# EAGLE library part WIZ850IO (library SamacSys_Parts)
Networking Modules W5500 + MAG Jack ioPlatform Mod Source: Datasheet <http://wizwiki.net/wiki/doku.php?id=products:wiz850io:start#hardware_specification>
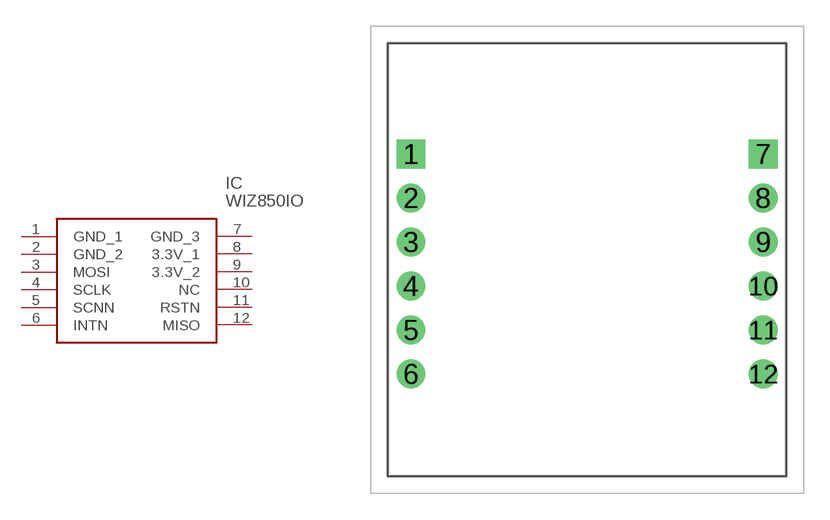
[diagram p2: symbol with the pads of WIZ850IO; footprint WIZ850IO]

Designator prefix IC

## WIZ850IO (DESCRIPTION: Networking Modules W5500 + MAG Jack ioPlatform Mod; HEIGHT: 12mm; MANUFACTURER_NAME: WIZnet Inc; MANUFACTURER_PART_NUMBER: WIZ850io; MOUSER_PART_NUMBER: 950-WIZ850IO; MOUSER_PRICE-STOCK: https://www.mouser.co.uk/ProductDetail/WIZnet/WIZ850io?qs=W0yvOO0ixfFLSlENQWBCKg%3D%3D)  [WIZ850IO]
1  GND_1
2  GND_2
3  MOSI
4  SCLK
5  SCNN
6  INTN
7  GND_3
8  3.3V_1
9  3.3V_2
10  NC  nc
11  RSTN
12  MISO

## Footprint WIZ850IO (pad centres in mm)
WIZ850io-7
drill 1.11 pad 1.665 square: 1 0,0; 7 20.32,0
drill 1.11 pad 1.665: 2 0,-2.54; 3 0,-5.08; 4 0,-7.62; 5 0,-10.16; 6 0,-12.7; 8 20.32,-2.54; 9 20.32,-5.08; 10 20.32,-7.62; 11 20.32,-10.16; 12 20.32,-12.7